# Altium footprint library SMD Crystal.PcbLib: 15 footprints
Each footprint in its own frame and in the unit in brackets; x right, y up, seen from the top. Pads: shape width x height; smd on the part's side, far side on the other; paste and mask are expansions set on the pad; w line width, h text height; cw(c..) or ccw(c..) is an arc to the next point about the centre after c.
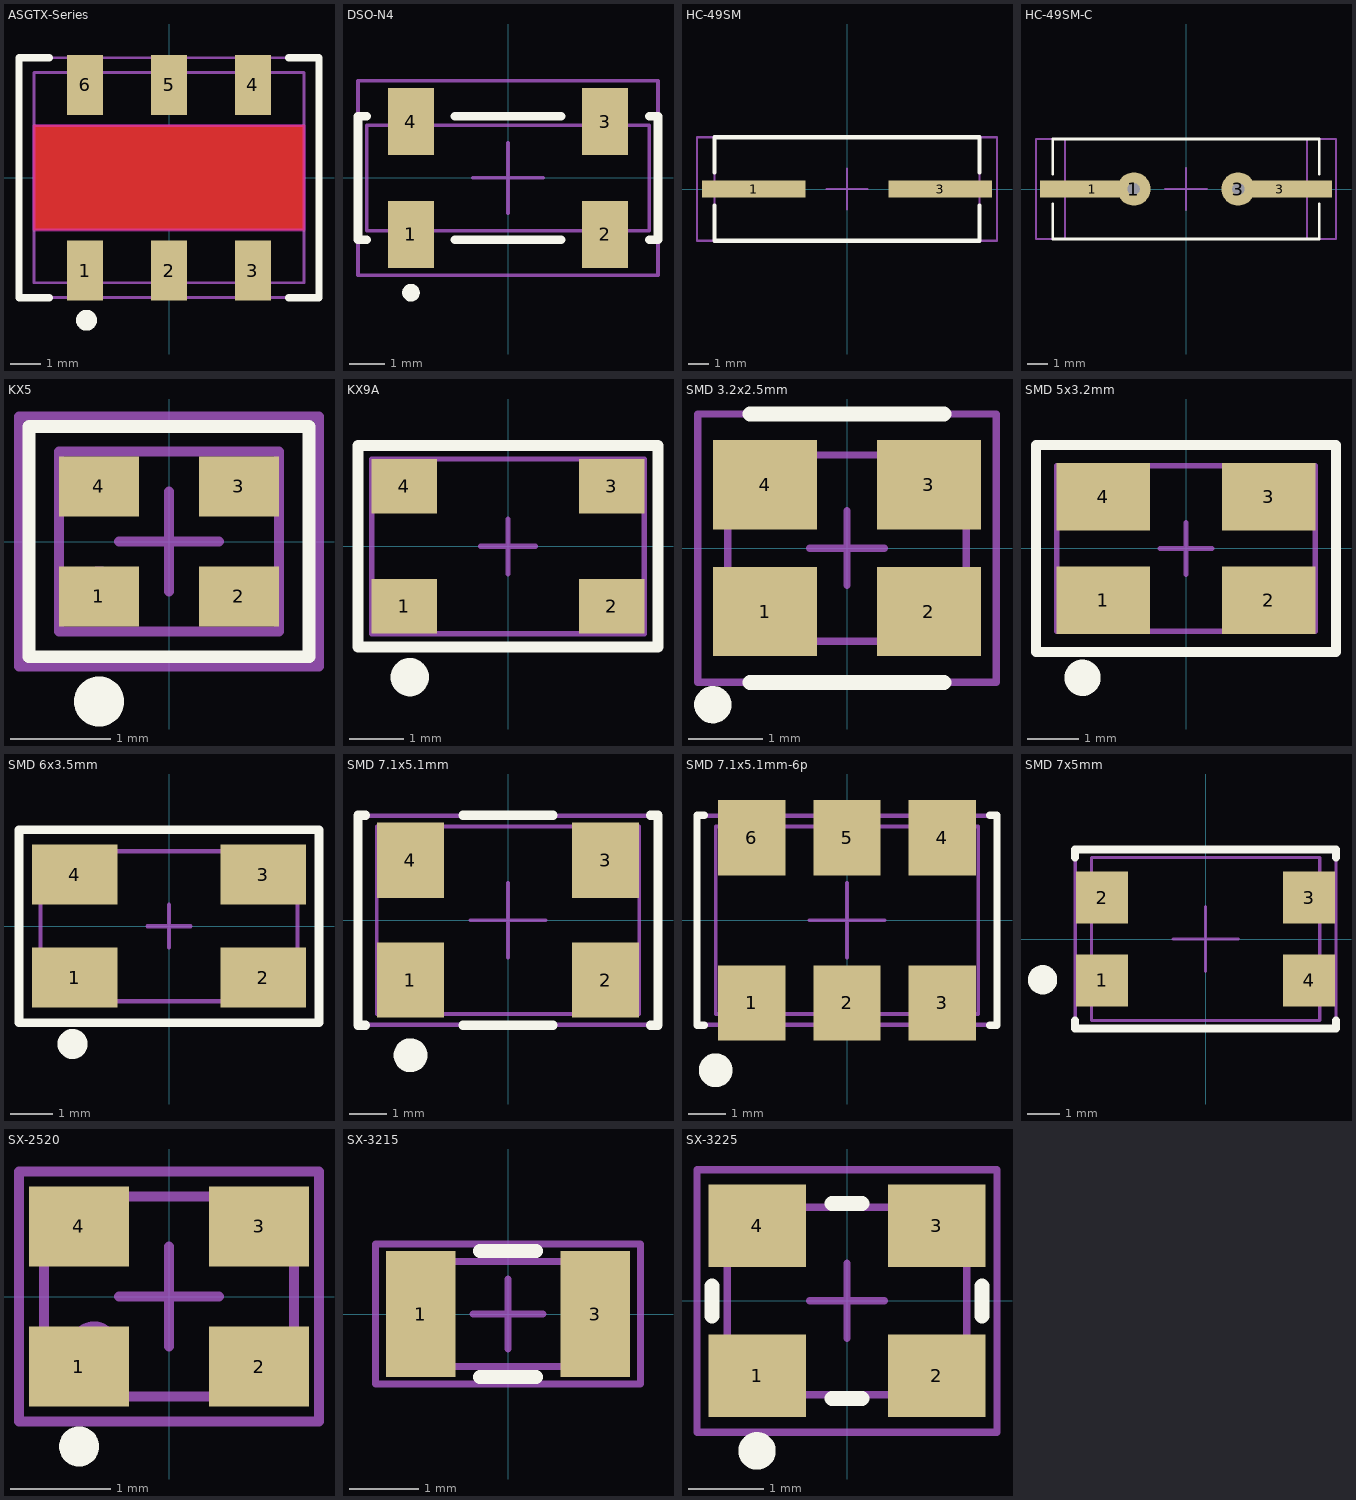
[diagram p0: the footprints below, top view; thin cyan lines are the x and y axes]

## ASGTX-Series [mm]
height 2.24
pads (6):
  rect 1.2x2 smd: 1(-2.8,-3.1) 2(0,-3.1) 3(2.8,-3.1) 4(2.8,3.1) 5(0,3.1) 6(-2.8,3.1)
Top Layer:
  pour cut-out: -4.5,1.75 4.5,1.75 4.5,-1.75 -4.5,-1.75
Top Layer keep-out:
  lines w0.1: -4.5,-1.75 4.5,-1.75 4.5,1.75 -4.5,1.75 -4.5,-1.75
Top Overlay:
  circle w0.5: c-2.75,-4.75 r0.1
  lines w0.25: -4,-4 -5,-4 -5,4 -4,4 ; 4,-4 5,-4 5,4 4,4
Mechanical 7:
  lines w0.05: -5,-4 -5,4 5,4 5,-4 -5,-4
  text ".Designator" at -1.75,-0.5 h1.5
Mechanical 13:
  circle w0.3: c-2.75,-2.5 r0.1
  lines w0.1: -4.5,-3.5 -4.5,3.5 4.5,3.5 4.5,-3.5 -4.5,-3.5
Mechanical 15:
  lines w0.1: -0.5,0 0.5,0 ; 0,-0.5 0,0.5 ; -5,-4 5,-4 5,4 -5,4 -5,-4
3D body "ASGTX.STEP": height 2.29, standoff 0.05, extent -4.5,-3.5 4.5,3.5

## DSO-N4 [mm] "Crystal, SM; 4 Leads; Body 8 x 3.8 x 2.5 mm (LxWxH)"
height 2.5
pads (4):
  rect 1.3x1.9 smd: 1(-2.75,-1.6) 2(2.75,-1.6) 3(2.75,1.6) 4(-2.75,1.6)
Top Overlay:
  circle w0.25: c-2.75,-3.25 r0.125
  lines w0.25: -4,-1.75 -4.25,-1.75 -4.25,1.75 -4,1.75 ; -1.5,-1.75 1.5,-1.75 ; -1.5,1.75 1.5,1.75 ; 4,-1.75 4.25,-1.75 4.25,1.75 4,1.75
Mechanical 7:
  lines w0.05: -4.25,-2.75 4.25,-2.75 4.25,2.75 -4.25,2.75 -4.25,-2.75
  text ".Designator" at -1.75,-0.5 h1.5
Mechanical 13:
  circle w0.25: c-2.75,-2 r0.125
  lines w0.1: -4,-1.5 4,-1.5 4,1.5 -4,1.5 -4,-1.5
Mechanical 15:
  lines w0.1: -1,0 1,0 ; 0,-1 0,1 ; -4.25,-2.75 -4.25,2.75 4.25,2.75 4.25,-2.75 -4.25,-2.75
3D body "User Library-EA96.step": height 1.5, standoff 0, extent -3.55,-1.55 3.55,1.55

## HC-49SM [mm] "HC49 Surface Mount Footprint"
height 5
pads (2):
  rect 5x0.8 smd: 1(-4.5,0) 3(4.5,0)
Top Overlay:
  lines w0.2: -6.4,-0.8 -6.4,-2.5 6.4,-2.5 6.4,-0.8 ; -6.4,0.8 -6.4,2.5 6.4,2.5 6.4,0.8
Mechanical 7:
  lines w0.05: -7.25,-2.5 -7.25,2.5 7.25,2.5 7.25,-2.5 -7.25,-2.5
  text ".Designator" at -1.75,-0.5 h1.5
Mechanical 13:
  lines w0.1: -6.4,-2.5 6.4,-2.5 6.4,2.5 -6.4,2.5 -6.4,-2.5
Mechanical 15:
  lines w0.1: -1,0 1,0 ; 0,-1 0,1 ; -7.25,-2.5 7.25,-2.5 7.25,2.5 -7.25,2.5 -7.25,-2.5
3D body "User Library-SMU4.STEP": height 4.02, standoff 0.02, extent -6.25,-2.4 6.25,2.4

## HC-49SM-C [mm] "HC49 Combined Surface and Through-hole Mount Footprints"
height 5
pads (4):
  rect 5x0.8 smd: 1(-4.5,0) 3(4.5,0)
  round 1.6 hole 0.6: 1(-2.5,0) 3(2.5,0)
Top Overlay:
  lines w0.125: -6.4,-0.7 -6.4,-2.4 6.4,-2.4 6.4,-0.7 ; -6.4,0.7 -6.4,2.4 6.4,2.4 6.4,0.7
Bottom Overlay:
  lines w0.125: -6.4,-2.4 6.4,-2.4 6.4,2.4 -6.4,2.4 -6.4,-2.4
Mechanical 7:
  lines w0.05: -7.2,-2.4 7.2,-2.4 7.2,2.4 -7.2,2.4 -7.2,-2.4
  text ".Designator" at -1.75,-0.5 h1.5
Mechanical 13:
  lines w0.1: -5.8,-2.4 5.8,-2.4 5.8,2.4 -5.8,2.4 -5.8,-2.4
Mechanical 15:
  lines w0.1: -1,0 1,0 ; 0,-1 0,1 ; -7.2,-2.4 7.2,-2.4 7.2,2.4 -7.2,2.4 -7.2,-2.4
3D body "User Library-HP49US.step": height 1, standoff -6.5, extent -5.675,-2.325 5.675,2.325

## KX5 [mm]
height 2
pads (4):
  rect 0.8x0.6 smd: 1(-0.7,-0.55) 2(0.7,-0.55) 3(0.7,0.55) 4(-0.7,0.55)
Top Overlay:
  circle w0.3: c-0.7,-1.6 r0.1
  lines w0.125: -1.4,-1.15 -1.4,1.15 1.4,1.15 1.4,-1.15 -1.4,-1.15
Mechanical 7:
  lines w0.05: -1.5,-1.25 -1.5,1.25 1.5,1.25 1.5,-1.25 -1.5,-1.25
  text ".Designator" at -1.25,-0.25 h0.7
Mechanical 13:
  circle w0.3: c-0.7,-0.5 r0.1
  lines w0.1: -1.1,-0.9 1.1,-0.9 1.1,0.9 -1.1,0.9 -1.1,-0.9
Mechanical 15:
  lines w0.1: -0.5,0 0.5,0 ; 0,-0.5 0,0.5 ; -1.5,-1.25 1.5,-1.25 1.5,1.25 -1.5,1.25 -1.5,-1.25
3D body "User Library-GeyerElectronics_KX5.step": height 0.56, standoff 0, extent -1.05,-0.85 1.05,0.85

## KX9A [mm] "SMD 05032 M4"
height 0.9
pads (4):
  rect 1.2x1 smd: 1(-1.9,-1.1) 2(1.9,-1.1) 3(1.9,1.1) 4(-1.9,1.1)
Top Overlay:
  circle w0.5: c-1.8,-2.4 r0.1
  lines w0.2: -2.75,-1.85 2.75,-1.85 2.75,1.85 -2.75,1.85 -2.75,-1.85
Mechanical 7:
  lines w0.05: -2.75,-1.85 2.75,-1.85 2.75,1.85 -2.75,1.85 -2.75,-1.85
  text ".Designator" at -2.5,-0.5 h1.5
Mechanical 13:
  circle w0.3: c-1.9,-1.1 r0.1
  lines w0.1: -2.5,-1.6 2.5,-1.6 2.5,1.6 -2.5,1.6 -2.5,-1.6
Mechanical 15:
  lines w0.1: -0.5,0 0.5,0 ; 0,-0.5 0,0.5 ; -2.75,-1.85 -2.75,1.85 2.75,1.85 2.75,-1.85 -2.75,-1.85
3D body "User Library-GeyerElectronics_KX9A.step": height 1.01, standoff 0, extent -2.5,-1.6 2.5,1.6

## SMD 3.2x2.5mm [mm]
height 0.8
pads (4):
  rect 1.4x1.2 smd paste+0: 1(-1.1,-0.85) 2(1.1,-0.85) 3(1.1,0.85) 4(-1.1,0.85)
Top Overlay:
  circle w0.25: c-1.8,-2.1 r0.125
  lines w0.2: -1.3,-1.8 1.3,-1.8 ; -1.3,1.8 1.3,1.8
Mechanical 7:
  lines w0.05: -2,-1.8 2,-1.8 2,1.8 -2,1.8 -2,-1.8
  text ".Designator" at -2,-0.5 h1.5
Mechanical 13:
  circle w0.25: c-1,-0.75 r0.125
  lines w0.1: -1.6,-1.25 1.6,-1.25 1.6,1.25 -1.6,1.25 -1.6,-1.25
Mechanical 15:
  lines w0.1: -0.5,0 0.5,0 ; 0,-0.5 0,0.5 ; -2,-1.8 2,-1.8 2,1.8 -2,1.8 -2,-1.8
3D body "User Library-CTS.step": height 0.77, standoff 0, extent -1.6,-1.25 1.6,1.25

## SMD 5x3.2mm [mm]
height 1.35
pads (4):
  rect 1.8x1.3 smd: 1(-1.6,-1) 2(1.6,-1) 3(1.6,1) 4(-1.6,1)
Top Overlay:
  circle w0.5: c-2,-2.5 r0.1
  lines w0.2: -2.9,-2 -2.9,2 2.9,2 2.9,-2 -2.9,-2
Mechanical 7:
  lines w0.05: -2.9,-2 -2.9,2 2.9,2 2.9,-2 -2.9,-2
  text ".Designator" at -2,-0.5 h1.5
Mechanical 13:
  circle w0.3: c-1.9,-1.1 r0.1
  lines w0.1: -2.5,-1.6 -2.5,1.6 2.5,1.6 2.5,-1.6 -2.5,-1.6
Mechanical 15:
  lines w0.1: -0.5,0 0.5,0 ; 0,-0.5 0,0.5 ; -2.9,-2 2.9,-2 2.9,2 -2.9,2 -2.9,-2
3D body "User Library-CRYSTALSMD5X32.step": height 1.01, standoff 0.01, extent -2.5,-1.6 2.5,1.6

## SMD 6x3.5mm [mm] "Crystal, SMD; 4 Leads; Body 3.5 x 6 x 1.2 mm (LxWxH)"
height 1.2
pads (4):
  rect 2x1.4 smd: 1(-2.2,-1.2) 2(2.2,-1.2) 3(2.2,1.2) 4(-2.2,1.2)
Top Overlay:
  circle w0.5: c-2.25,-2.75 r0.1
  lines w0.2: -3.5,-2.25 3.5,-2.25 3.5,2.25 -3.5,2.25 -3.5,-2.25
Mechanical 7:
  lines w0.05: -3.5,-2.25 -3.5,2.25 3.5,2.25 3.5,-2.25 -3.5,-2.25
  text ".Designator" at -2,-0.5 h1.5
Mechanical 13:
  circle w0.3: c-1.9,-1.1 r0.1
  lines w0.1: -3,-1.75 3,-1.75 3,1.75 -3,1.75 -3,-1.75
Mechanical 15:
  lines w0.1: -0.5,0 0.5,0 ; 0,-0.5 0,0.5 ; -3.5,-2.25 -3.5,2.25 3.5,2.25 3.5,-2.25 -3.5,-2.25
3D body "User Library-ABMM2.STEP": height 1.22, standoff 0.01, extent -3,-1.8 3,1.8

## SMD 7.1x5.1mm [mm] "Crystal, SMD; 4 Leads; Body 5.1 x 7.1 x 1.6 mm (LxWxH)"
height 1.6
pads (4):
  rect 1.8x2 smd: 1(-2.6,-1.6) 2(2.6,-1.6) 3(2.6,1.6) 4(-2.6,1.6)
Top Overlay:
  circle w0.5: c-2.6,-3.6 r0.2
  lines w0.25: -3.8,-2.8 -4,-2.8 -4,2.8 -3.8,2.8 ; -1.2,-2.8 1.2,-2.8 ; -1.2,2.8 1.2,2.8 ; 3.8,-2.8 4,-2.8 4,2.8 3.8,2.8
Mechanical 7:
  lines w0.05: -4,-2.75 -4,2.75 4,2.75 4,-2.75 -4,-2.75
  text ".Designator" at -2,-0.5 h1.5
Mechanical 13:
  circle w0.3: c-2.5,-1.75 r0.1
  lines w0.1: -3.5,-2.5 3.5,-2.5 3.5,2.5 -3.5,2.5 -3.5,-2.5
Mechanical 15:
  lines w0.1: -1,0 1,0 ; 0,-1 0,1 ; -4,-2.8 -4,2.8 4,2.8 4,-2.8 -4,-2.8
3D body "User Library-GK109-S.step": height 1.6, standoff -0.01, extent -3.5,-2.5 3.5,2.5

## SMD 7.1x5.1mm-6p [mm] "Crystal, SMD; 6 Leads; Body 5.1 x 7.1 x 1.6 mm (LxWxH)"
height 1.6
pads (6):
  rect 1.8x2 smd: 1(-2.54,-2.2) 2(0,-2.2) 3(2.54,-2.2) 4(2.54,2.2) 5(0,2.2) 6(-2.54,2.2)
Top Overlay:
  circle w0.5: c-3.5,-4 r0.2
  lines w0.2: -3.8,-2.8 -4,-2.8 -4,2.8 -3.8,2.8 ; 3.8,-2.8 4,-2.8 4,2.8 3.8,2.8
Mechanical 7:
  lines w0.05: -4,-2.75 4,-2.75 4,2.75 -4,2.75 -4,-2.75
  text ".Designator" at -2,-0.5 h1.5
Mechanical 13:
  circle w0.3: c-2.5,-1.75 r0.1
  lines w0.1: -3.5,-2.5 3.5,-2.5 3.5,2.5 -3.5,2.5 -3.5,-2.5
Mechanical 15:
  lines w0.1: -1,0 1,0 ; 0,-1 0,1 ; -4,-2.8 -4,2.8 4,2.8 4,-2.8 -4,-2.8
3D body "User Library-EG-2121CA.step": height 1.2, standoff 0, extent -3.502,-2.502 3.502,2.503

## SMD 7x5mm [mm] "Crystal, SMD; 4 Leads; Body 5 x 7 x 1.2 mm (LxWxH)"
height 1.2
pads (4):
  rect 1.6x1.6 smd: 1(-3.175,-1.27) 2(-3.175,1.27) 3(3.175,1.27) 4(3.175,-1.27)
Top Overlay:
  circle w0.5: c-5,-1.25 r0.2
  lines w0.25: -4,-2.5 -4,-2.75 4,-2.75 4,-2.5 ; -4,2.5 -4,2.75 4,2.75 4,2.5
Mechanical 7:
  lines w0.05: -4,-2.75 -4,2.75 4,2.75 4,-2.75 -4,-2.75
  text ".Designator" at -2,-0.5 h1.5
Mechanical 13:
  circle w0.3: c-3,-1.25 r0.1
  lines w0.1: -3.5,-2.5 -3.5,2.5 3.5,2.5 3.5,-2.5 -3.5,-2.5
Mechanical 15:
  lines w0.1: -1,0 1,0 ; 0,-1 0,1 ; -4,-2.75 4,-2.75 4,2.75 -4,2.75 -4,-2.75
3D body "User Library-FXO_LC73.step": height 1.4, standoff -0.02, extent -3.75,-2.6 3.75,2.6

## SX-2520 [mm]
height 0.6
pads (4):
  rect 1x0.8 smd: 1(-0.9,-0.7) 2(0.9,-0.7) 3(0.9,0.7) 4(-0.9,0.7)
Top Overlay:
  circle w0.2: c-0.9,-1.5 r0.1
Mechanical 7:
  lines w0.05: -1.5,-1.25 1.5,-1.25 1.5,1.25 -1.5,1.25 -1.5,-1.25
  text ".Designator" at -1.25,-0.25 h1
Mechanical 13:
  circle w0.3: c-0.75,-0.5 r0.1
  lines w0.1: -1.25,-1 -1.25,1 1.25,1 1.25,-1 -1.25,-1
Mechanical 15:
  lines w0.1: -0.5,0 0.5,0 ; 0,-0.5 0,0.5 ; -1.5,-1.25 1.5,-1.25 1.5,1.25 -1.5,1.25 -1.5,-1.25
3D body "User Library-CRY_2520.step": height 0.55, standoff 0, extent -1.25,-1 1.25,1

## SX-3215 [mm]
height 0.8
pads (2):
  rect 1x1.8 smd: 1(-1.25,0) 3(1.25,0)
Top Overlay:
  lines w0.2: -0.4,-0.9 0.4,-0.9 ; -0.4,0.9 0.4,0.9
Mechanical 7:
  lines w0.05: -1.9,-1 -1.9,1 1.9,1 1.9,-1 -1.9,-1
  text ".Designator" at -1.75,-0.25 h1
Mechanical 13:
  circle w0.3: c-1.2,0 r0.1
  lines w0.1: -1.6,-0.75 -1.6,0.75 1.6,0.75 1.6,-0.75 -1.6,-0.75
Mechanical 15:
  lines w0.1: -0.5,0 0.5,0 ; 0,-0.5 0,0.5 ; -1.9,-1 1.9,-1 1.9,1 -1.9,1 -1.9,-1
3D body "User Library-SX3215 (1).step": height 0.81, standoff 0, extent -1.6,-0.75 1.6,0.75

## SX-3225 [mm]
height 0.6
pads (4):
  rect 1.3x1.1 smd: 1(-1.2,-1) 2(1.2,-1) 3(1.2,1) 4(-1.2,1)
Top Overlay:
  circle w0.3: c-1.2,-2 r0.1
  lines w0.2: -1.8,-0.2 -1.8,0.2 ; -0.2,-1.3 0.2,-1.3 ; -0.2,1.3 0.2,1.3 ; 1.8,-0.2 1.8,0.2
Mechanical 7:
  lines w0.05: -2,-1.75 2,-1.75 2,1.75 -2,1.75 -2,-1.75
  text ".Designator" at -1.75,-0.25 h1.2
Mechanical 13:
  circle w0.3: c-1.1,-0.8 r0.1
  lines w0.1: -1.6,-1.25 -1.6,1.25 1.6,1.25 1.6,-1.25 -1.6,-1.25
Mechanical 15:
  lines w0.1: -0.5,0 0.5,0 ; 0,-0.5 0,0.5 ; -2,-1.75 2,-1.75 2,1.75 -2,1.75 -2,-1.75
3D body "User Library-User Library-Siward_SX3225.step": height 0.81, standoff 0, extent -1.6,-1.25 1.6,1.25